# Altium integrated library Analog Devices Data Converters Analog-to-Digital Converters.IntLib: 2404 symbols (part 184 of 346)
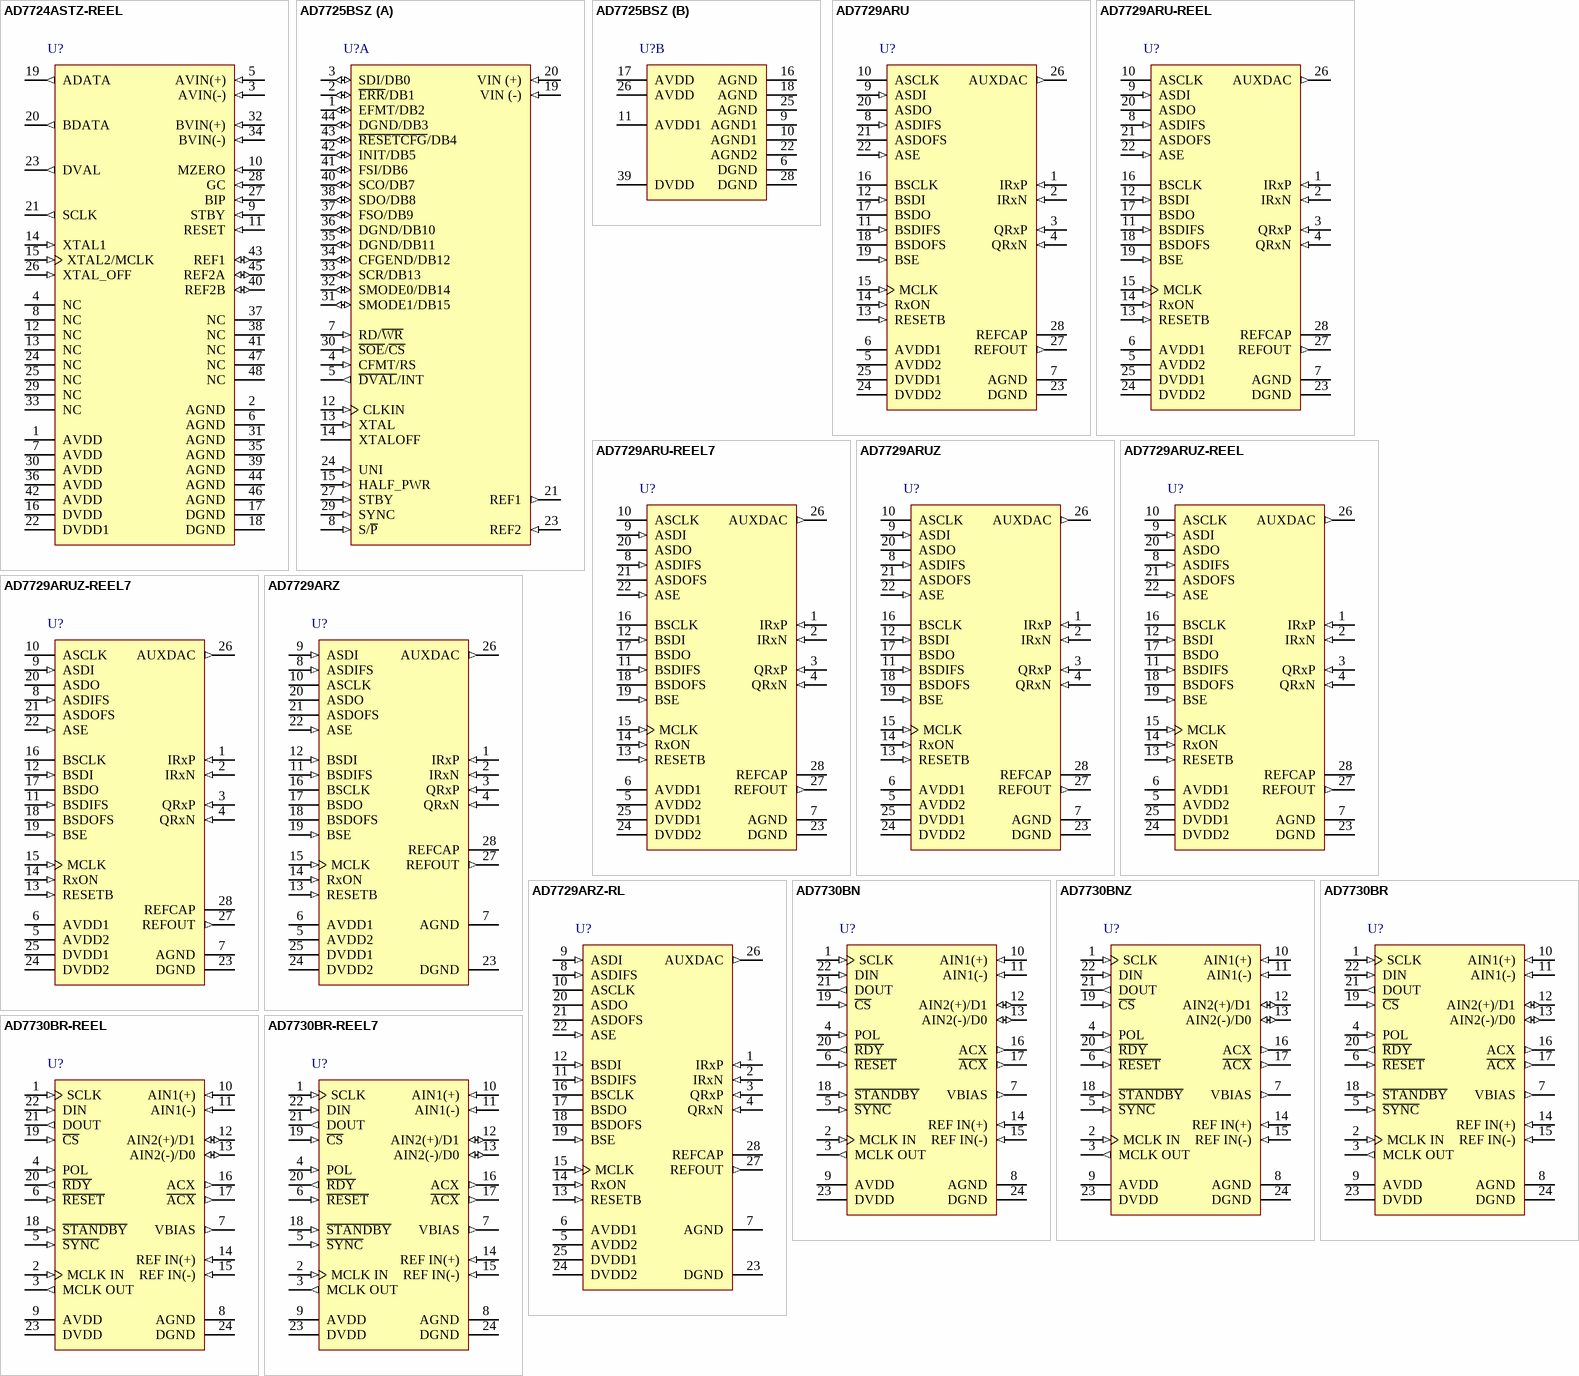
[diagram p354: symbols AD7724ASTZ-REEL to AD7730BR-REEL7]

## AD7729ARU-REEL7
designator U?
Dual 15-Bit Sigma-Delta Analog-to-Digital Converter with Serial Interface and Auxiliary DAC, 270.8KSPS, -40 to +105 degC, RU-28, Reel; Generic Part Number: AD7729; Manufacturer: Analog Devices; PartNumber: AD7729ARU-REEL7; Resolution (Bits): 15; Channels: 2; Throughput Rate (SPS): 270.8K; Interface: Ser; DatasheetVersion: Rev.0; PackageVersion: 2005; PackageReference: RU-28; PackageDescription: 28-Lead Thin Shrink Small Outline Package [TSSOP]; Supplier 1: Digi-Key; Supplier Part Number 1: AD7729ARU-REEL7-ND; Supplier 2: Mouser; Supplier Part Number 2: 584-AD7729ARU-R7; RoHS: N; Packing: Reel; Mounting Technology: Surface Mount; Code_JEDEC: MO-153-AE; ComponentLink1Description: Manufacturer URL; ComponentLink1URL: http://www.analog.com/en/index.html; ComponentLink2Description: Datasheet; ComponentLink2URL: http://www.analog.com/static/imported-files/data_sheets/AD7729.pdf; ComponentLink3Description: Package Specification; ComponentLink3URL: http://www.analog.com/static/imported-files/packages/249854663RU_28.pdf; ComponentLink4Description: Product URL; ComponentLink4URL: http://www.analog.com/en/analog-to-digital-converters/ad-converters/ad7729/products/product.html
footprint RU-28_N (TSOP, 28-Leads, Body 9.7x4.4mm, Pitch 0.65mm, IPC Medium Density)
footprint RU-28_L (TSOP, 28-Leads, Body 9.7x4.4mm, Pitch 0.65mm, IPC High Density)
footprint RU-28_M (TSOP, 28-Leads, Body 9.7x4.4mm, Pitch 0.65mm, IPC Low Density)
pins: 1 IRxP (in) "Differential Analog Input for I Receive Channel.", 2 IRxN (in) "Differential Analog Input for I Receive Channel.", 3 QRxP (in) "Differential Analog Input for Q Receive Channel.", 4 QRxN (in) "Differential Analog Input for Q Receive Channel.", 5 AVDD2 (power) "Analog Power Supply Connection for the Auxiliary Section.", 6 AVDD1 (power) "Analog Power Supply Connection for the Rx Section and the Bandgap Reference.", 7 AGND (power) "Analog Ground Connection.", 8 ASDIFS (in) "Input Framing Signal for ASDI Serial Transfers.", 9 ASDI (in) "Serial Data Input of ASPORT. Both data and control information are input on this pin.", 10 ASCLK (hiz) "Serial Clock used to clock data or control bits to and from the auxiliary serial port (ASPORT).The frequency of ASCLK is programmable and is equal to the frequency of the master clock (MCLK) divided by an integer number.", 11 BSDIFS (in) "Input Framing Signal for BSDI Serial Transfers.", 12 BSDI (in) "Serial Data Input of BSPORT. Both data and control information are input on this pin.", 13 RESETB (in) "Active Low Reset Signal. This input resets the entire AD7729 chip, resetting the control registers and clearing the digital filters. The logic input levels (VINH and VINL) for RESETB are determined by the value of DVDD2.", 14 RxON (in) "Receive Section Power-On Digital Input.  The receive section is powered up by taking pin RxON high. The receive section can alternatively be powered up by programming bit RxON in baseband control register BCRA. When the (See Datasheet)", 15 MCLK (in) "Master Clock Input. MCLK is driven from a 13 MHz crystal. The active levels for MCLK are determined by the value of DVDD2.", 16 BSCLK (hiz) "Output serial clock used to clock data or control bits to and from the baseband serial port (BSPORT). The frequency of BSCLK is programmable and is equal to the frequency of the master clock (MCLK) divided by an integer (See Datasheet)", 17 BSDO (hiz) "Serial Data Output of BSPORT. Both data and control information are output on this pin.BSDO is in three-state when no information is being transmitted, thereby allowing external  control.", 18 BSDOFS (hiz) "Output Framing Signal for BSDO Serial Transfers.", 19 BSE (in) "BSPORT Enable. When BSE is low, the BSPORT is put into three-state thereby allowing external control of the serial bus.", 20 ASDO (hiz) "Serial Data Output of ASPORT. Both data and control information are output on this pin.ASDO is in three-state when no information is being transmitted, thereby allowing external control.", 21 ASDOFS (hiz) "Output Framing Signal for ASDO Serial Transfers.", 22 ASE (in) "ASPORT Enable. When ASE is low, the ASPORT is put into three-state thereby allowing external control of the serial bus.", 23 DGND (power) "Digital Ground Connection.", 24 DVDD2 (power) "Digital Power Supply Connection for the Serial Interface Section. This power supply also sets the threshold voltages for RxON, RESETB and MCLK.", 25 DVDD1 (power) "Digital Ground Connection.", 26 AUXDAC (out) "Analog Output Voltage from the 10-Bit Auxiliary DAC AUXDAC. This DAC is used for functions such as Automatic Gain Control (AGC). The DAC possesses a register that is accessible via the ASPORT or BSPORT. The DAC may be (See Datasheet)", 27 REFOUT (out) "Buffered Reference Output, which has a nominal value of 1.3 V.  A bypass capacitor (to AGND) of 0.1 µF is required on this pin.", 28 REFCAP "A bypass capacitor to AGND of 0.1 µF is required for the on-chip reference. The capacitor should be fixed to this pin."